# Altium footprint library 1000uF_50V.PcbLib: 1 footprints
Each footprint in its own frame and in the unit in brackets; x right, y up, seen from the top. Pads: shape width x height; smd on the part's side, far side on the other; paste and mask are expansions set on the pad; w line width, h text height; cw(c..) or ccw(c..) is an arc to the next point about the centre after c.
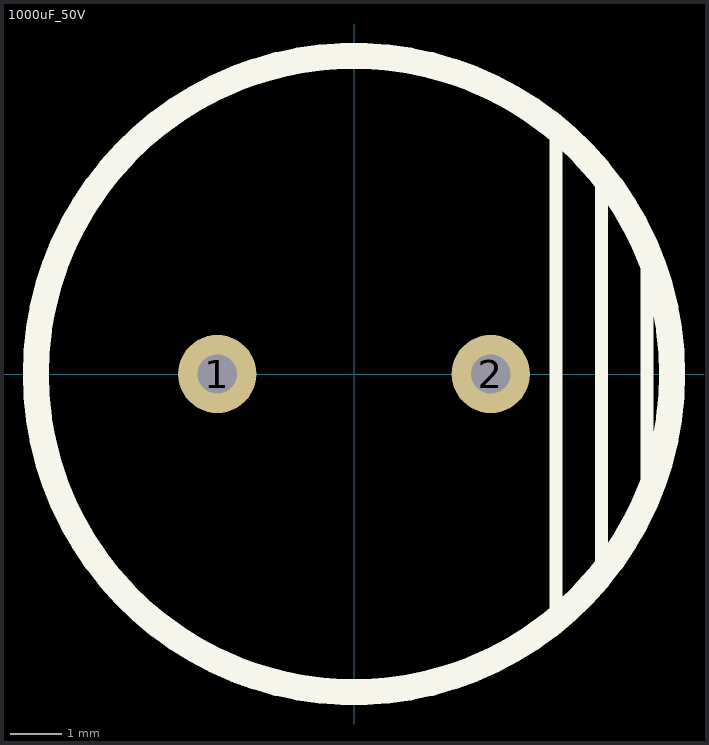
[diagram p0: the footprint, top view; thin cyan lines are the x and y axes]

## 1000uF_50V [mil]
pads (2):
  round 60 hole 30: 1(-105,0) 2(105,0)
Top Overlay:
  circle w20: c0,0 r244.23
  lines w10: 155,-185 155,185 ; 190,-150 190,150 ; 225,-100 225,90
3D body "HITANO 1000uF 50V 85.STEP": height 1015.7, standoff -1088.63, extent -248.03,-248.02 248.43,248.43